# EAGLE library part BOARD_CPU_H8_MITSUIWA (library mylib_20130829)
CPU BOARD : H8 3069 "MITSUIWA BOARD"
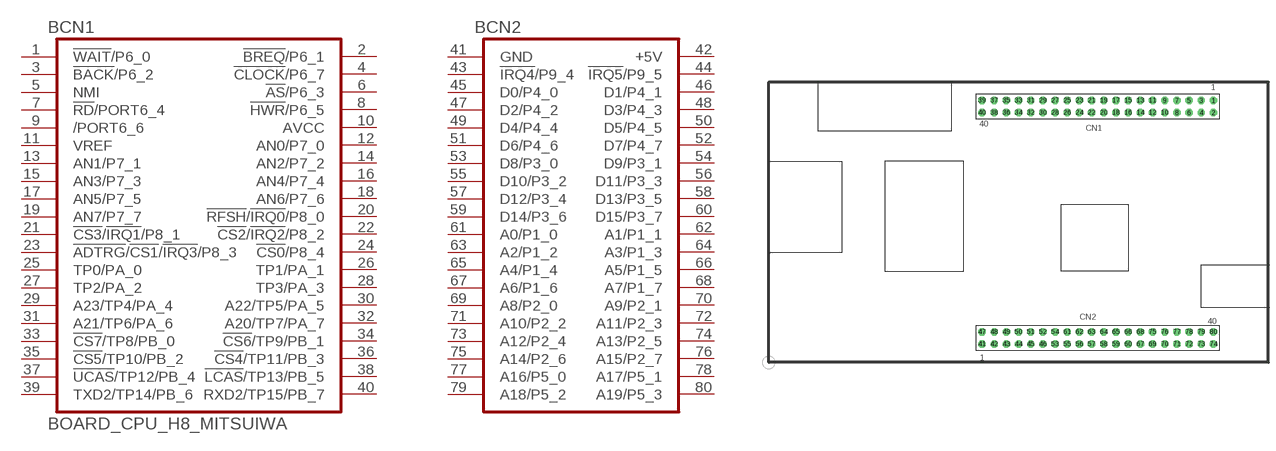
[diagram p68: symbol with the pads of BOARD_CPU_H8_MITSUIWA; footprint BOARD_CPU_H8_MITSUIWA]

Designator prefix B; gates CN1=BOARD_CPU_H8_MITSUIWA_CN1 CN2=BOARD_CPU_H8_MITSUIWA_CN2

## BOARD_CPU_H8_MITSUIWA  [BOARD_CPU_H8_MITSUIWA]
1  CN1:!WAIT!/P6_0
2  CN1:!BREQ!/P6_1
3  CN1:!BACK!/P6_2
4  CN1:!CLOCK!/P6_7
5  CN1:NMI
6  CN1:!AS!/P6_3
7  CN1:!RD!/PORT6_4
8  CN1:!HWR!/P6_5
9  CN1:/PORT6_6
10  CN1:AVCC
11  CN1:VREF
12  CN1:AN0/P7_0
13  CN1:AN1/P7_1
14  CN1:AN2/P7_2
15  CN1:AN3/P7_3
16  CN1:AN4/P7_4
17  CN1:AN5/P7_5
18  CN1:AN6/P7_6
19  CN1:AN7/P7_7
20  CN1:!RFSH!/!IRQ0!/P8_0
21  CN1:!CS3!/!IRQ1!/P8_1
22  CN1:!CS2!/!IRQ2!/P8_2
23  CN1:!ADTRG!/!CS1!/!IRQ3!/P8_3
24  CN1:!CS0!/P8_4
25  CN1:TP0/PA_0
26  CN1:TP1/PA_1
27  CN1:TP2/PA_2
28  CN1:TP3/PA_3
29  CN1:A23/TP4/PA_4
30  CN1:A22/TP5/PA_5
31  CN1:A21/TP6/PA_6
32  CN1:A20/TP7/PA_7
33  CN1:!CS7!/TP8/PB_0
34  CN1:!CS6!/TP9/PB_1
35  CN1:!CS5!/TP10/PB_2
36  CN1:!CS4!/TP11/PB_3
37  CN1:!UCAS!/TP12/PB_4
38  CN1:!LCAS!/TP13/PB_5
39  CN1:TXD2/TP14/PB_6
40  CN1:RXD2/TP15/PB_7
41  CN2:GND
42  CN2:+5V
43  CN2:!IRQ4!/P9_4
44  CN2:!IRQ5!/P9_5
45  CN2:D0/P4_0
46  CN2:D1/P4_1
47  CN2:D2/P4_2
48  CN2:D3/P4_3
49  CN2:D4/P4_4
50  CN2:D5/P4_5
51  CN2:D6/P4_6
52  CN2:D7/P4_7
53  CN2:D8/P3_0
54  CN2:D9/P3_1
55  CN2:D10/P3_2
56  CN2:D11/P3_3
57  CN2:D12/P3_4
58  CN2:D13/P3_5
59  CN2:D14/P3_6
60  CN2:D15/P3_7
61  CN2:A0/P1_0
62  CN2:A1/P1_1
63  CN2:A2/P1_2
64  CN2:A3/P1_3
65  CN2:A4/P1_4
66  CN2:A5/P1_5
67  CN2:A6/P1_6
68  CN2:A7/P1_7
69  CN2:A8/P2_0
70  CN2:A9/P2_1
71  CN2:A10/P2_2
72  CN2:A11/P2_3
73  CN2:A12/P2_4
74  CN2:A13/P2_5
75  CN2:A14/P2_6
76  CN2:A15/P2_7
77  CN2:A16/P5_0
78  CN2:A17/P5_1
79  CN2:A18/P5_2
80  CN2:A19/P5_3

## Footprint BOARD_CPU_H8_MITSUIWA (pad centres in mm)
CPU BOARD H8 3069 "MITSUIWA BOARD"
drill 1.016 octagon: 1 92.71,54.61; 2 92.71,52.07; 3 90.17,54.61; 4 90.17,52.07; 5 87.63,54.61; 6 87.63,52.07; 7 85.09,54.61; 8 85.09,52.07; 9 82.55,54.61; 10 82.55,52.07; 11 80.01,54.61; 12 80.01,52.07; 13 77.47,54.61; 14 77.47,52.07; 15 74.93,54.61; 16 74.93,52.07; 17 72.39,54.61; 18 72.39,52.07; 19 69.85,54.61; 20 69.85,52.07; 21 67.31,54.61; 22 67.31,52.07; 23 64.77,54.61; 24 64.77,52.07; 25 62.23,54.61; 26 62.23,52.07; 27 59.69,54.61; 28 59.69,52.07; 29 57.15,54.61; 30 57.15,52.07; 31 54.61,54.61; 32 54.61,52.07; 33 52.07,54.61; 34 52.07,52.07; 35 49.53,54.61; 36 49.53,52.07; 37 46.99,54.61; 38 46.99,52.07; 39 44.45,54.61; 40 44.45,52.07; 41 44.45,3.81; 42 46.99,3.81; 43 49.53,3.81; 44 52.07,3.81; 45 54.61,3.81; 46 57.15,3.81; 47 44.45,6.35; 48 46.99,6.35; 49 49.53,6.35; 50 52.07,6.35; 51 54.61,6.35; 52 57.15,6.35; 53 59.69,3.81; 54 59.69,6.35; 55 62.23,3.81; 56 64.77,3.81; 57 67.31,3.81; 58 69.85,3.81; 59 72.39,3.81; 60 74.93,3.81; 61 62.23,6.35; 62 64.77,6.35; 63 67.31,6.35; 64 69.85,6.35; 65 72.39,6.35; 66 74.93,6.35; 67 77.47,3.81; 68 77.47,6.35; 69 80.01,3.81; 70 82.55,3.81; 71 85.09,3.81; 72 87.63,3.81; 73 90.17,3.81; 74 92.71,3.81; 75 80.01,6.35; 76 82.55,6.35; 77 85.09,6.35; 78 87.63,6.35; 79 90.17,6.35; 80 92.71,6.35